# EAGLE library part LPC1114FN28 (library tinymac)
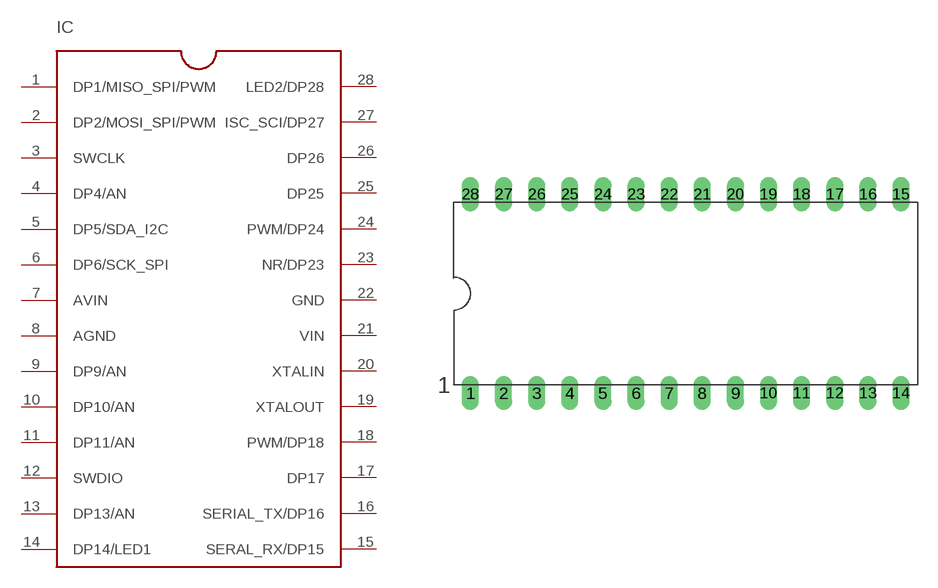
[diagram p0: symbol with the pads of DIP28; footprint DIP28]

Designator prefix IC

## LPC1114FN28  [DIP28]
1  DP1/MISO_SPI/PWM
2  DP2/MOSI_SPI/PWM
3  SWCLK
4  DP4/AN
5  DP5/SDA_I2C
6  DP6/SCK_SPI
7  AVIN  pwr
8  AGND  pwr
9  DP9/AN
10  DP10/AN
11  DP11/AN
12  SWDIO
13  DP13/AN
14  DP14/LED1
15  SERAL_RX/DP15
16  SERIAL_TX/DP16
17  DP17
18  PWM/DP18
19  XTALOUT  out
20  XTALIN  in
21  VIN  pwr
22  GND  pwr
23  NR/DP23
24  PWM/DP24
25  DP25
26  DP26
27  ISC_SCI/DP27
28  LED2/DP28

## Footprint DIP28 (pad centres in mm)
DIP28 (2.54mm 600mil)
drill 0.813 long: 1 -16.51,-7.62; 2 -13.97,-7.62; 3 -11.43,-7.62; 4 -8.89,-7.62; 5 -6.35,-7.62; 6 -3.81,-7.62; 7 -1.27,-7.62; 8 1.27,-7.62; 9 3.81,-7.62; 10 6.35,-7.62; 11 8.89,-7.62; 12 11.43,-7.62; 13 13.97,-7.62; 14 16.51,-7.62; 15 16.51,7.62; 16 13.97,7.62; 17 11.43,7.62; 18 8.89,7.62; 19 6.35,7.62; 20 3.81,7.62; 21 1.27,7.62; 22 -1.27,7.62; 23 -3.81,7.62; 24 -6.35,7.62; 25 -8.89,7.62; 26 -11.43,7.62; 27 -13.97,7.62; 28 -16.51,7.62